# Altium schematic symbol library Device.SchLib: 594 symbols (part 1 of 3)
Pins are listed as number, name and electrical type; pins without a type are passive.

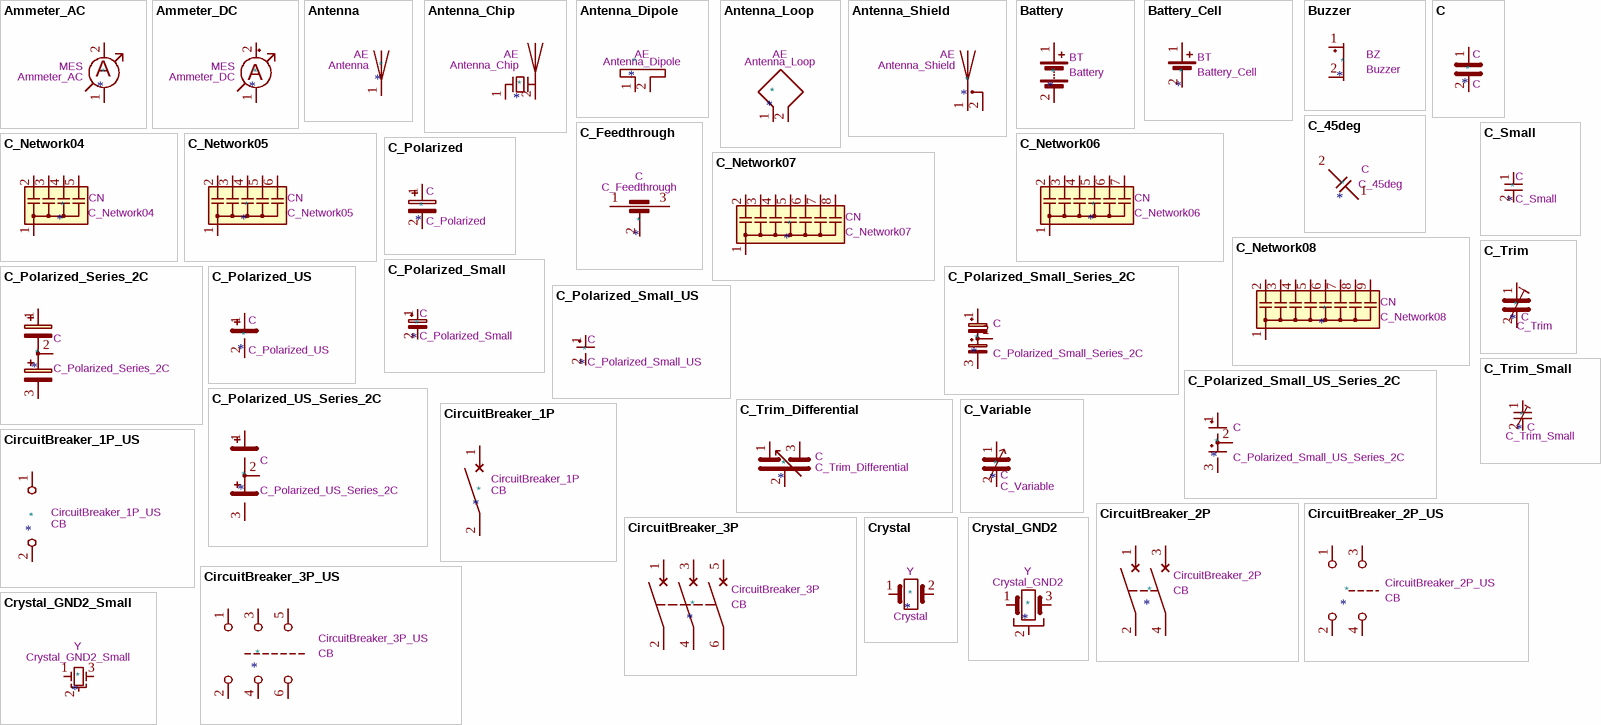
[diagram p0: symbols Ammeter_AC to Crystal_GND2_Small]

## Ammeter_AC
designator *  value Ammeter_AC  Reference: MES
ki_keywords: ammeter AC ampere meter; ki_description: AC ammeter; Datasheet: ~
pins: 1, 2
text: A

## Ammeter_DC
designator *  value Ammeter_DC  Reference: MES
ki_keywords: ammeter DC ampere meter; ki_description: DC ammeter; Datasheet: ~
pins: 1 -, 2 +
text: A

## Antenna
designator *  value Antenna  Reference: AE
Datasheet: ~; ki_keywords: antenna; ki_description: Antenna
pins: 1 A

## Antenna_Chip
designator *  value Antenna_Chip  Reference: AE
ki_keywords: antenna; ki_description: Ceramic chip antenna with pin for PCB trace; Datasheet: ~
pins: 1 FEED, 2 PCB_Trace

## Antenna_Dipole
designator *  value Antenna_Dipole  Reference: AE
ki_keywords: dipole antenna; Datasheet: ~; ki_description: Dipole antenna
pins: 1, 2

## Antenna_Loop
designator *  value Antenna_Loop  Reference: AE
ki_keywords: loop antenna; Datasheet: ~; ki_description: Loop antenna
pins: 1, 2

## Antenna_Shield
designator *  value Antenna_Shield  Reference: AE
ki_keywords: antenna; ki_description: Antenna with extra pin for shielding; Datasheet: ~
pins: 1 A, 2 Shield

## Battery
designator *  value Battery  Reference: BT
ki_keywords: batt voltage-source cell; ki_description: Multiple-cell battery; Datasheet: ~
pins: 1 +, 2 -

## Battery_Cell
designator *  value Battery_Cell  Reference: BT
ki_keywords: battery cell; ki_description: Single-cell battery; Datasheet: ~
pins: 1 +, 2 -

## Buzzer
designator *  value Buzzer  Reference: BZ
ki_keywords: quartz resonator ceramic; ki_description: Buzzer, polarized; ki_fp_filters: *Buzzer*; Datasheet: ~
pins: 1 +, 2 -

## C
designator *  value C
ki_keywords: cap capacitor; ki_description: Unpolarized capacitor; ki_fp_filters: C_*; Reference: C; Datasheet: ~
pins: 1, 2

## C_45deg
designator *  value C_45deg  Reference: C
ki_keywords: capacitor cap; ki_description: Unpolarized capacitor, rotated by 45°; ki_fp_filters: R_*; Datasheet: ~
pins: 1, 2

## C_Feedthrough
designator *  value C_Feedthrough  Reference: C
ki_keywords: EMI filter feedthrough capacitor; ki_description: Feedthrough capacitor; Datasheet: ~
pins: 1, 2, 3

## C_Network04
designator *  value C_Network04  Reference: CN
ki_keywords: C network star-topology; ki_description: 4 capacitor network, star topology, bussed capacitors, single bus pin, small symbol, SIP-5; ki_fp_filters: C*Array* SIP*; Datasheet: ~
pins: 1 common, 2 C1, 3 C2, 4 C3, 5 C4

## C_Network05
designator *  value C_Network05  Reference: CN
ki_keywords: C network star-topology; ki_description: 5 capacitor network, star topology, bussed capacitors, single bus pin, small symbol, SIP-6; ki_fp_filters: C*Array* SIP*; Datasheet: ~
pins: 1 common, 2 C1, 3 C2, 4 C3, 5 C4, 6 C5

## C_Network06
designator *  value C_Network06  Reference: CN
ki_keywords: C network star-topology; ki_description: 6 capacitor network, star topology, bussed capacitors, single bus pin, small symbol, SIP-7; ki_fp_filters: C*Array* SIP*; Datasheet: ~
pins: 1 common, 2 C1, 3 C2, 4 C3, 5 C4, 6 C5, 7 C6

## C_Network07
designator *  value C_Network07  Reference: CN
ki_keywords: C network star-topology; ki_description: 7 capacitor network, star topology, bussed capacitors, single bus pin, small symbol, SIP-8; ki_fp_filters: C*Array* SIP*; Datasheet: ~
pins: 1 common, 2 C1, 3 C2, 4 C3, 5 C4, 6 C5, 7 C6, 8 C7

## C_Network08
designator *  value C_Network08  Reference: CN
ki_keywords: C network star-topology; ki_description: 8 capacitor network, star topology, bussed capacitors, single bus pin, small symbol, SIP-9; ki_fp_filters: C*Array* SIP*; Datasheet: ~
pins: 1 common, 2 C1, 3 C2, 4 C3, 5 C4, 6 C5, 7 C6, 8 C7, 9 C8

## C_Polarized
designator *  value C_Polarized  Reference: C
ki_keywords: cap capacitor; ki_description: Polarized capacitor; ki_fp_filters: CP_*; Datasheet: ~
pins: 1, 2

## C_Polarized_Series_2C
designator *  value C_Polarized_Series_2C  Reference: C
ki_keywords: cap capacitor; ki_description: Set of two polarized capacitors in series; ki_fp_filters: CP*; Datasheet: ~
pins: 1, 2, 3

## C_Polarized_Small
designator *  value C_Polarized_Small  Reference: C
ki_keywords: cap capacitor; ki_description: Polarized capacitor, small symbol; ki_fp_filters: CP_*; Datasheet: ~
pins: 1, 2

## C_Polarized_Small_Series_2C
designator *  value C_Polarized_Small_Series_2C  Reference: C
ki_keywords: cap capacitor; ki_description: Set of two polarized capacitors in series, small symbol; ki_fp_filters: CP*; Datasheet: ~
pins: 1, 2, 3

## C_Polarized_Small_US
designator *  value C_Polarized_Small_US  Reference: C
ki_keywords: cap capacitor; ki_description: Polarized capacitor, small US symbol; ki_fp_filters: CP_*; Datasheet: ~
pins: 1, 2

## C_Polarized_Small_US_Series_2C
designator *  value C_Polarized_Small_US_Series_2C  Reference: C
ki_keywords: cap capacitor; ki_description: Polarized capacitor, small US symbol; ki_fp_filters: CP*; Datasheet: ~
pins: 1, 2, 3

## C_Polarized_US
designator *  value C_Polarized_US  Reference: C
ki_keywords: cap capacitor; ki_description: Polarized capacitor, US symbol; ki_fp_filters: CP_*; Datasheet: ~
pins: 1, 2

## C_Polarized_US_Series_2C
designator *  value C_Polarized_US_Series_2C  Reference: C
ki_keywords: cap capacitor; ki_description: Polarized capacitor, US symbol; ki_fp_filters: CP*; Datasheet: ~
pins: 1, 2, 3

## C_Small
designator *  value C_Small  Reference: C
ki_keywords: capacitor cap; ki_description: Unpolarized capacitor, small symbol; ki_fp_filters: C_*; Datasheet: ~
pins: 1, 2

## C_Trim
designator *  value C_Trim  Reference: C
ki_keywords: trimmer variable capacitor; ki_description: Trimmable capacitor; Datasheet: ~
pins: 1, 2

## C_Trim_Differential
designator *  value C_Trim_Differential  Reference: C
ki_keywords: trimmer capacitor; ki_description: Differential variable capacitor with two stators; Datasheet: ~
pins: 1, 2, 3

## C_Trim_Small
designator *  value C_Trim_Small  Reference: C
ki_keywords: trimmer variable capacitor; ki_description: Trimmable capacitor, small symbol; ki_fp_filters: C_*; Datasheet: ~
pins: 1, 2

## C_Variable
designator *  value C_Variable  Reference: C
ki_keywords: trimmer capacitor; ki_description: Variable capacitor; Datasheet: ~
pins: 1, 2

## CircuitBreaker_1P
designator *  value CircuitBreaker_1P  Reference: CB
ki_description: Single pole circuit breaker; Datasheet: ~; ki_keywords: CB
pins: 1, 2

## CircuitBreaker_1P_US
designator *  value CircuitBreaker_1P_US  Reference: CB
ki_description: Single pole circuit breaker, US symbol; Datasheet: ~; ki_keywords: CB
pins: 1, 2

## CircuitBreaker_2P
designator *  value CircuitBreaker_2P  Reference: CB
ki_keywords: CB 2P; ki_description: Double pole circuit breaker; Datasheet: ~
pins: 1, 2, 3, 4

## CircuitBreaker_2P_US
designator *  value CircuitBreaker_2P_US  Reference: CB
ki_keywords: CB 2P; ki_description: Double pole circuit breaker, US symbol; Datasheet: ~
pins: 1, 2, 3, 4

## CircuitBreaker_3P
designator *  value CircuitBreaker_3P  Reference: CB
ki_keywords: CB 3P; ki_description: Triple pole circuit breaker; Datasheet: ~
pins: 1, 2, 3, 4, 5, 6

## CircuitBreaker_3P_US
designator *  value CircuitBreaker_3P_US  Reference: CB
ki_keywords: CB 3P; ki_description: Triple pole circuit breaker, US symbol; Datasheet: ~
pins: 1, 2, 3, 4, 5, 6

## Crystal
designator *  value Crystal  Reference: Y
ki_keywords: quartz ceramic resonator oscillator; ki_description: Two pin crystal; ki_fp_filters: Crystal*; Datasheet: ~
pins: 1, 2

## Crystal_GND2
designator *  value Crystal_GND2  Reference: Y
ki_keywords: quartz ceramic resonator oscillator; ki_description: Three pin crystal, GND on pin 2; ki_fp_filters: Crystal*; Datasheet: ~
pins: 1, 2, 3

## Crystal_GND2_Small
designator *  value Crystal_GND2_Small  Reference: Y
ki_keywords: quartz ceramic resonator oscillator; ki_description: Three pin crystal, GND on pin 2, small symbol; ki_fp_filters: Crystal*; Datasheet: ~
pins: 1, 2, 3

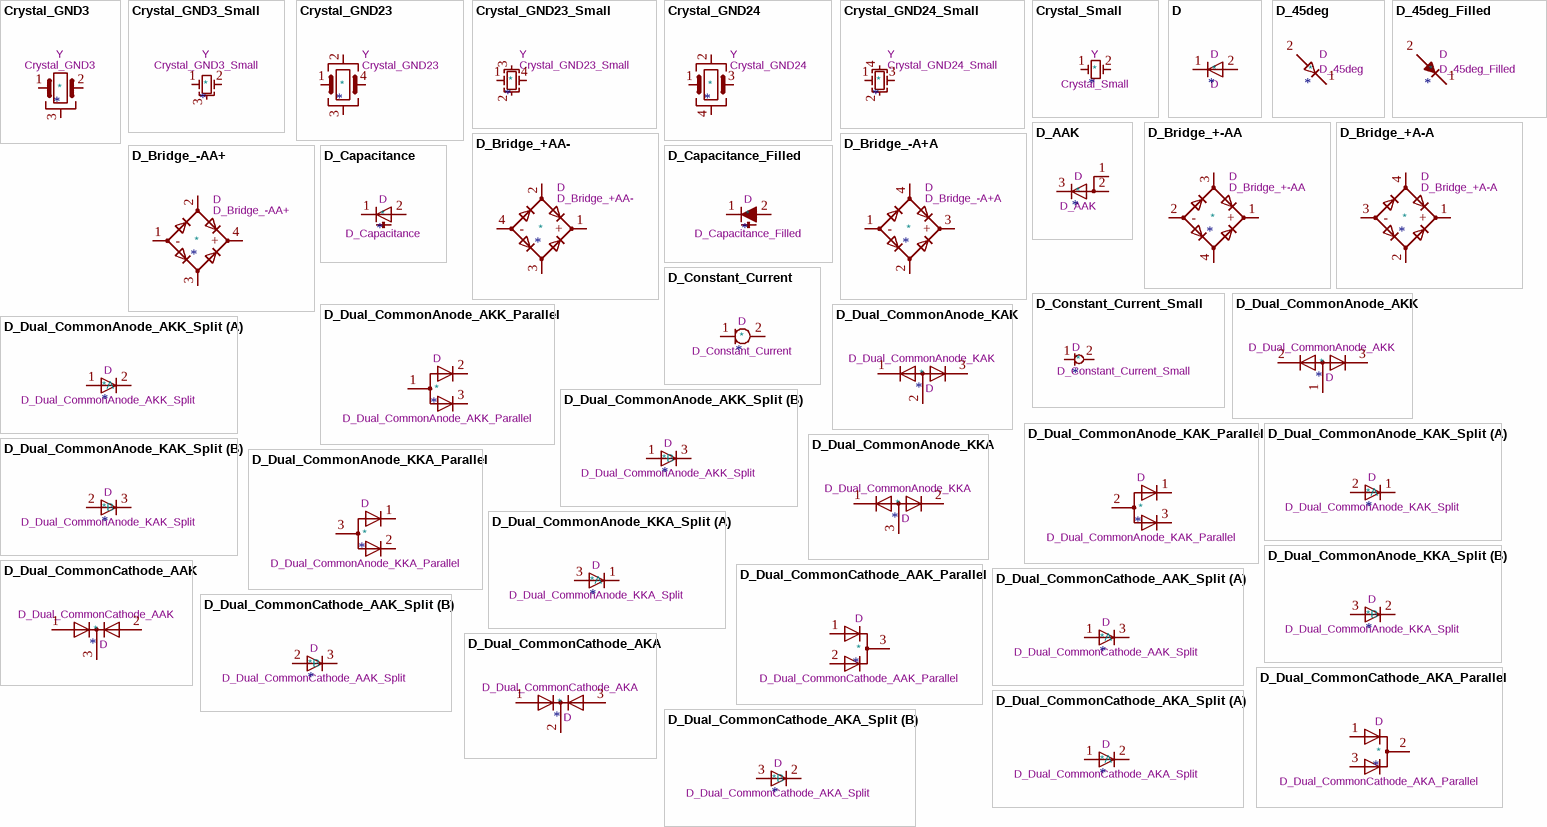
[diagram p1: symbols Crystal_GND3 to D_Dual_CommonCathode_AKA_Split]

## Crystal_GND3
designator *  value Crystal_GND3  Reference: Y
ki_keywords: quartz ceramic resonator oscillator; ki_description: Three pin crystal, GND on pin 3; ki_fp_filters: Crystal*; Datasheet: ~
pins: 1, 2, 3

## Crystal_GND3_Small
designator *  value Crystal_GND3_Small  Reference: Y
ki_keywords: quartz ceramic resonator oscillator; ki_description: Three pin crystal, GND on pin 3, small symbol; ki_fp_filters: Crystal*; Datasheet: ~
pins: 1, 2, 3

## Crystal_GND23
designator *  value Crystal_GND23  Reference: Y
ki_keywords: quartz ceramic resonator oscillator; ki_description: Four pin crystal, GND on pins 2 and 3; ki_fp_filters: Crystal*; Datasheet: ~
pins: 1, 2, 3, 4

## Crystal_GND23_Small
designator *  value Crystal_GND23_Small  Reference: Y
ki_keywords: quartz ceramic resonator oscillator; ki_description: Four pin crystal, GND on pins 2 and 3, small symbol; ki_fp_filters: Crystal*; Datasheet: ~
pins: 1, 2, 3, 4

## Crystal_GND24
designator *  value Crystal_GND24  Reference: Y
ki_keywords: quartz ceramic resonator oscillator; ki_description: Four pin crystal, GND on pins 2 and 4; ki_fp_filters: Crystal*; Datasheet: ~
pins: 1, 2, 3, 4

## Crystal_GND24_Small
designator *  value Crystal_GND24_Small  Reference: Y
ki_keywords: quartz ceramic resonator oscillator; ki_description: Four pin crystal, GND on pins 2 and 4, small symbol; ki_fp_filters: Crystal*; Datasheet: ~
pins: 1, 2, 3, 4

## Crystal_Small
designator *  value Crystal_Small  Reference: Y
ki_keywords: quartz ceramic resonator oscillator; ki_description: Two pin crystal, small symbol; ki_fp_filters: Crystal*; Datasheet: ~
pins: 1, 2

## D
designator *  value D
Sim.Pins: 1=K 2=A; ki_keywords: diode; ki_fp_filters: TO-???* *_Diode_* *SingleDiode* D_*; Reference: D; Datasheet: ~; Sim.Device: D; ki_description: Diode
pins: 1 K, 2 A

## D_45deg
designator *  value D_45deg  Reference: D
Sim.Pins: 1=K 2=A; ki_keywords: Diode; ki_description: Diode, rotated by 45°; ki_fp_filters: D*Bridge* D*Rectifier*; Datasheet: ~; Sim.Device: D
pins: 1 K, 2 A

## D_45deg_Filled
designator *  value D_45deg_Filled  Reference: D
Sim.Pins: 1=K 2=A; ki_keywords: Diode; ki_description: Diode, filled, rotated by 45°; ki_fp_filters: D*Bridge* D*Rectifier*; Datasheet: ~; Sim.Device: D
pins: 1 K, 2 A

## D_AAK
designator *  value D_AAK  Reference: D
ki_keywords: diode; ki_description: Diode, anode on pins 1 and 2; ki_fp_filters: TO-???* *_Diode_* *SingleDiode* D_*; Datasheet: ~
pins: 1 A, 2 A, 3 K

## D_Bridge_+-AA
designator *  value D_Bridge_+-AA  Reference: D
ki_keywords: rectifier ACDC; ki_description: Diode bridge, +ve/-ve/AC/AC; ki_fp_filters: D*Bridge* D*Rectifier*; Datasheet: ~
pins: 1 +, 2 -, 3, 4

## D_Bridge_+A-A
designator *  value D_Bridge_+A-A  Reference: D
ki_keywords: rectifier ACDC; ki_description: Diode bridge, +ve/AC/-ve/AC; ki_fp_filters: D*Bridge* D*Rectifier*; Datasheet: ~
pins: 1 +, 2, 3 -, 4

## D_Bridge_+AA-
designator *  value D_Bridge_+AA-  Reference: D
ki_keywords: rectifier ACDC; ki_description: Diode bridge, +ve/AC/AC/-ve; ki_fp_filters: D*Bridge* D*Rectifier*; Datasheet: ~
pins: 1 +, 2, 3, 4 -

## D_Bridge_-A+A
designator *  value D_Bridge_-A+A  Reference: D
ki_keywords: rectifier ACDC; ki_description: Diode bridge, -ve/AC/+ve/AC; ki_fp_filters: D*Bridge* D*Rectifier*; Datasheet: ~
pins: 1 -, 2, 3 +, 4

## D_Bridge_-AA+
designator *  value D_Bridge_-AA+  Reference: D
ki_keywords: rectifier ACDC; ki_description: Diode bridge, -ve/AC/AC/+ve; ki_fp_filters: D*Bridge* D*Rectifier*; Datasheet: ~
pins: 1 -, 2, 3, 4 +

## D_Capacitance
designator *  value D_Capacitance  Reference: D
ki_keywords: capacitance diode varicap varactor; ki_description: Variable capacitance diode; ki_fp_filters: TO-???* *_Diode_* *SingleDiode* D_*; Datasheet: ~
pins: 1 K, 2 A

## D_Capacitance_Filled
designator *  value D_Capacitance_Filled  Reference: D
ki_keywords: capacitance diode varicap varactor; ki_description: Variable capacitance diode, filled shape; ki_fp_filters: TO-???* *_Diode_* *SingleDiode* D_*; Datasheet: ~
pins: 1 K, 2 A

## D_Constant_Current
designator *  value D_Constant_Current  Reference: D
ki_keywords: diode constant-current current limit regulator; ki_description: Constant-current diode / current limiting diode / current regulator diode; ki_fp_filters: TO-???* D_*; Datasheet: ~
pins: 1 K, 2 A

## D_Constant_Current_Small
designator *  value D_Constant_Current_Small  Reference: D
ki_keywords: diode constant-current current limit regulator; ki_description: Constant-current diode / current limiting diode / current regulator diode, small symbol; ki_fp_filters: TO-???* D_*; Datasheet: ~
pins: 1 K, 2 A

## D_Dual_CommonAnode_AKK
designator *  value D_Dual_CommonAnode_AKK  Reference: D
ki_keywords: diode; ki_description: Dual diode, common anode on pin 1; Datasheet: ~
pins: 1 A, 2 K, 3 K

## D_Dual_CommonAnode_AKK_Parallel
designator *  value D_Dual_CommonAnode_AKK_Parallel  Reference: D
ki_keywords: diode; ki_description: Dual diode, common anode on pin 1; Datasheet: ~
pins: 1 A, 2 K, 3 K

## D_Dual_CommonAnode_AKK_Split
designator *  value D_Dual_CommonAnode_AKK_Split  Reference: D
ki_keywords: diode; ki_description: Dual diode, common anode on pin 1; Datasheet: ~
part A pins: 1 A, 2 K
part B pins: 1 A, 3 K

## D_Dual_CommonAnode_KAK
designator *  value D_Dual_CommonAnode_KAK  Reference: D
ki_keywords: diode; ki_description: Dual diode, common anode on pin 2; Datasheet: ~
pins: 1 K, 2 A, 3 K

## D_Dual_CommonAnode_KAK_Parallel
designator *  value D_Dual_CommonAnode_KAK_Parallel  Reference: D
ki_keywords: diode; ki_description: Dual diode, common anode on pin 1; Datasheet: ~
pins: 1 K, 2 A, 3 K

## D_Dual_CommonAnode_KAK_Split
designator *  value D_Dual_CommonAnode_KAK_Split  Reference: D
ki_keywords: diode; ki_description: Dual diode, common anode on pin 1; Datasheet: ~
part A pins: 1 K, 2 A
part B pins: 2 A, 3 K

## D_Dual_CommonAnode_KKA
designator *  value D_Dual_CommonAnode_KKA  Reference: D
ki_keywords: diode; ki_description: Dual diode, common anode on pin 3; Datasheet: ~
pins: 1 K, 2 K, 3 A

## D_Dual_CommonAnode_KKA_Parallel
designator *  value D_Dual_CommonAnode_KKA_Parallel  Reference: D
ki_keywords: diode; ki_description: Dual diode, common anode on pin 1; Datasheet: ~
pins: 1 K, 2 K, 3 A

## D_Dual_CommonAnode_KKA_Split
designator *  value D_Dual_CommonAnode_KKA_Split  Reference: D
ki_keywords: diode; ki_description: Dual diode, common anode on pin 1; Datasheet: ~
part A pins: 1 K, 3 A
part B pins: 2 K, 3 A

## D_Dual_CommonCathode_AAK
designator *  value D_Dual_CommonCathode_AAK  Reference: D
ki_keywords: diode; ki_description: Dual diode, common cathode on pin 3; Datasheet: ~
pins: 1 A, 2 A, 3 K

## D_Dual_CommonCathode_AAK_Parallel
designator *  value D_Dual_CommonCathode_AAK_Parallel  Reference: D
ki_keywords: diode; ki_description: Dual diode, common anode on pin 1; Datasheet: ~
pins: 1 K, 2 K, 3 A

## D_Dual_CommonCathode_AAK_Split
designator *  value D_Dual_CommonCathode_AAK_Split  Reference: D
ki_keywords: diode; ki_description: Dual diode, common anode on pin 1; Datasheet: ~
part A pins: 1 A, 3 K
part B pins: 2 K, 3 K

## D_Dual_CommonCathode_AKA
designator *  value D_Dual_CommonCathode_AKA  Reference: D
ki_keywords: diode; ki_description: Dual diode, common cathode on pin 2; Datasheet: ~
pins: 1 A, 2 K, 3 A

## D_Dual_CommonCathode_AKA_Parallel
designator *  value D_Dual_CommonCathode_AKA_Parallel  Reference: D
ki_keywords: diode; ki_description: Dual diode, common anode on pin 1; Datasheet: ~
pins: 1 K, 2 A, 3 K

## D_Dual_CommonCathode_AKA_Split
designator *  value D_Dual_CommonCathode_AKA_Split  Reference: D
ki_keywords: diode; ki_description: Dual diode, common anode on pin 1; Datasheet: ~
part A pins: 1 A, 2 K
part B pins: 2 K, 3 K

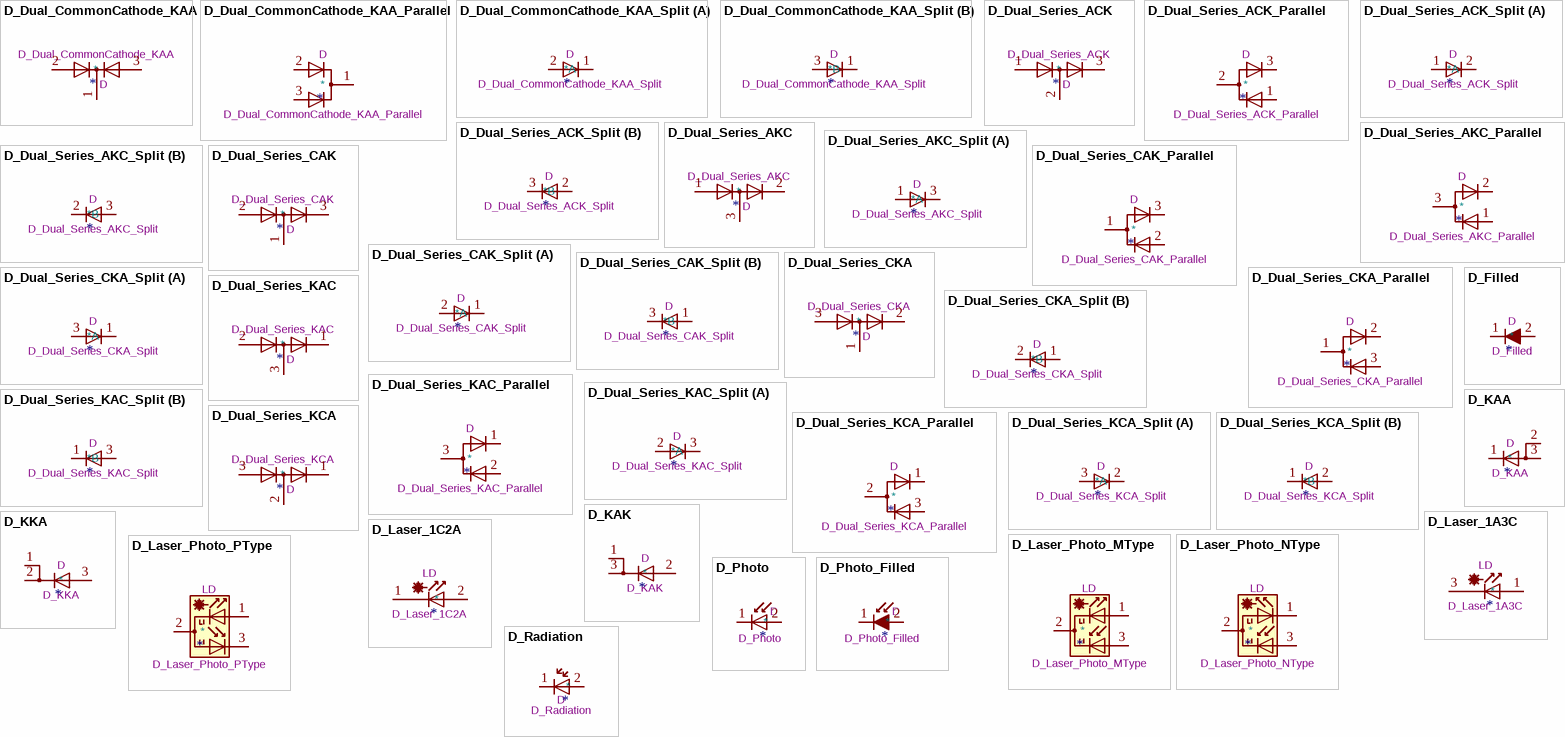
[diagram p2: symbols D_Dual_CommonCathode_KAA to D_Radiation]

## D_Dual_CommonCathode_KAA
designator *  value D_Dual_CommonCathode_KAA  Reference: D
ki_keywords: diode; ki_description: Dual diode, common cathode on pin 1; Datasheet: ~
pins: 1 K, 2 A, 3 A

## D_Dual_CommonCathode_KAA_Parallel
designator *  value D_Dual_CommonCathode_KAA_Parallel  Reference: D
ki_keywords: diode; ki_description: Dual diode, common anode on pin 1; Datasheet: ~
pins: 1 A, 2 K, 3 K

## D_Dual_CommonCathode_KAA_Split
designator *  value D_Dual_CommonCathode_KAA_Split  Reference: D
ki_keywords: diode; ki_description: Dual diode, common anode on pin 1; Datasheet: ~
part A pins: 1 K, 2 A
part B pins: 1 K, 3 K

## D_Dual_Series_ACK
designator *  value D_Dual_Series_ACK  Reference: D
ki_keywords: diode; ki_description: Dual diode, anode/center/cathode; Datasheet: ~
pins: 1 A, 2 common, 3 K

## D_Dual_Series_ACK_Parallel
designator *  value D_Dual_Series_ACK_Parallel  Reference: D
ki_keywords: diode; ki_description: Dual diode, anode/center/cathode; Datasheet: ~
pins: 1 K, 2 A, 3 K

## D_Dual_Series_ACK_Split
designator *  value D_Dual_Series_ACK_Split  Reference: D
ki_keywords: diode; ki_description: Dual diode, anode/center/cathode; Datasheet: ~
part A pins: 1 A, 2 K
part B pins: 2 K, 3 K

## D_Dual_Series_AKC
designator *  value D_Dual_Series_AKC  Reference: D
ki_keywords: diode; ki_description: Dual diode, anode/cathode/center; Datasheet: ~
pins: 1 A, 2 K, 3 common

## D_Dual_Series_AKC_Parallel
designator *  value D_Dual_Series_AKC_Parallel  Reference: D
ki_keywords: diode; ki_description: Dual diode, anode/cathode/center; Datasheet: ~
pins: 1 K, 2 K, 3 A

## D_Dual_Series_AKC_Split
designator *  value D_Dual_Series_AKC_Split  Reference: D
ki_keywords: diode; ki_description: Dual diode, anode/cathode/center; Datasheet: ~
part A pins: 1 A, 3 K
part B pins: 2 K, 3 K

## D_Dual_Series_CAK
designator *  value D_Dual_Series_CAK  Reference: D
ki_keywords: diode; ki_description: Dual diode, center/anode/cathode; Datasheet: ~
pins: 1 common, 2 A, 3 K

## D_Dual_Series_CAK_Parallel
designator *  value D_Dual_Series_CAK_Parallel  Reference: D
ki_keywords: diode; ki_description: Dual diode, center/anode/cathode; Datasheet: ~
pins: 1 A, 2 K, 3 K

## D_Dual_Series_CAK_Split
designator *  value D_Dual_Series_CAK_Split  Reference: D
ki_keywords: diode; ki_description: Dual diode, center/anode/cathode; Datasheet: ~
part A pins: 1 K, 2 A
part B pins: 1 K, 3 K

## D_Dual_Series_CKA
designator *  value D_Dual_Series_CKA  Reference: D
ki_keywords: diode; ki_description: Dual diode, center/cathode/anode; Datasheet: ~
pins: 1 common, 2 K, 3 A

## D_Dual_Series_CKA_Parallel
designator *  value D_Dual_Series_CKA_Parallel  Reference: D
ki_keywords: diode; ki_description: Dual diode, center/cathode/anode; Datasheet: ~
pins: 1 A, 2 K, 3 K

## D_Dual_Series_CKA_Split
designator *  value D_Dual_Series_CKA_Split  Reference: D
ki_keywords: diode; ki_description: Dual diode, center/cathode/anode; Datasheet: ~
part A pins: 1 K, 3 A
part B pins: 1 K, 2 K

## D_Dual_Series_KAC
designator *  value D_Dual_Series_KAC  Reference: D
ki_keywords: diode; ki_description: Dual diode, cathode/anode/center; Datasheet: ~
pins: 1 K, 2 A, 3 common

## D_Dual_Series_KAC_Parallel
designator *  value D_Dual_Series_KAC_Parallel  Reference: D
ki_keywords: diode; ki_description: Dual diode, cathode/anode/center; Datasheet: ~
pins: 1 K, 2 K, 3 A

## D_Dual_Series_KAC_Split
designator *  value D_Dual_Series_KAC_Split  Reference: D
ki_keywords: diode; ki_description: Dual diode, cathode/anode/center; Datasheet: ~
part A pins: 2 A, 3 K
part B pins: 1 K, 3 K

## D_Dual_Series_KCA
designator *  value D_Dual_Series_KCA  Reference: D
ki_keywords: diode; ki_description: Dual diode, cathode/center/anode; Datasheet: ~
pins: 1 K, 2 common, 3 A

## D_Dual_Series_KCA_Parallel
designator *  value D_Dual_Series_KCA_Parallel  Reference: D
ki_keywords: diode; ki_description: Dual diode, cathode/center/anode; Datasheet: ~
pins: 1 K, 2 A, 3 K

## D_Dual_Series_KCA_Split
designator *  value D_Dual_Series_KCA_Split  Reference: D
ki_keywords: diode; ki_description: Dual diode, cathode/center/anode; Datasheet: ~
part A pins: 2 K, 3 A
part B pins: 1 K, 2 K

## D_Filled
designator *  value D_Filled  Reference: D
Sim.Pins: 1=K 2=A; ki_keywords: diode; ki_description: Diode, filled shape; ki_fp_filters: TO-???* *_Diode_* *SingleDiode* D_*; Datasheet: ~; Sim.Device: D
pins: 1 K, 2 A

## D_KAA
designator *  value D_KAA  Reference: D
ki_keywords: diode; ki_description: Diode, anode on pins 2 and 3; ki_fp_filters: TO-???* *_Diode_* *SingleDiode* D_*; Datasheet: ~
pins: 1 K, 2 A, 3 A

## D_KAK
designator *  value D_KAK  Reference: D
ki_keywords: diode; ki_description: Diode, cathode on pins 1 and 3; ki_fp_filters: TO-???* *_Diode_* *SingleDiode* D_*; Datasheet: ~
pins: 1 K, 2 A, 3 K

## D_KKA
designator *  value D_KKA  Reference: D
ki_keywords: diode; ki_description: Diode, cathode on pins 1 and 2; ki_fp_filters: TO-???* *_Diode_* *SingleDiode* D_*; Datasheet: ~
pins: 1 K, 2 K, 3 A

## D_Laser_1A3C
designator *  value D_Laser_1A3C  Reference: LD
ki_keywords: opto laserdiode; ki_description: Laser diode, cathode on pin 3, anode on pin 1; ki_fp_filters: *LaserDiode*; Datasheet: ~
pins: 1 A, 3 K

## D_Laser_1C2A
designator *  value D_Laser_1C2A  Reference: LD
ki_keywords: opto laserdiode; ki_description: Laser diode, cathode on pin 1, anode on pin 2; ki_fp_filters: *LaserDiode*; Datasheet: ~
pins: 1 K, 2 A

## D_Laser_Photo_MType
designator *  value D_Laser_Photo_MType  Reference: LD
ki_keywords: opto laserdiode photodiode; ki_description: Laser diode with photodiode, common cathode on pin 2; ki_fp_filters: *LaserDiode*; Datasheet: http://www.egismos.disonhu.com/laser/diode-package.htm
pins: 1, 2, 3

## D_Laser_Photo_NType
designator *  value D_Laser_Photo_NType  Reference: LD
ki_keywords: opto laserdiode photodiode; ki_description: Laser diode with photodiode, center on pin 2, LD cathode on pin 1; ki_fp_filters: *LaserDiode*; Datasheet: http://www.egismos.disonhu.com/laser/diode-package.htm
pins: 1, 2, 3

## D_Laser_Photo_PType
designator *  value D_Laser_Photo_PType  Reference: LD
ki_keywords: opto laserdiode photodiode; ki_description: Laser diode with photodiode, center on pin 2, PD cathode on pin 3; ki_fp_filters: *LaserDiode*; Datasheet: http://www.egismos.disonhu.com/laser/diode-package.htm
pins: 1, 2, 3

## D_Photo
designator *  value D_Photo  Reference: D
ki_keywords: photodiode diode opto; ki_description: Photodiode; Datasheet: ~
pins: 1 K, 2 A

## D_Photo_Filled
designator *  value D_Photo_Filled  Reference: D
ki_keywords: photodiode diode opto; ki_description: Photodiode, filled shape; Datasheet: ~
pins: 1 K, 2 A

## D_Radiation
designator *  value D_Radiation  Reference: D
ki_keywords: radiation detector diode; ki_description: Semiconductor radiation detector; Datasheet: ~
pins: 1 K, 2 A

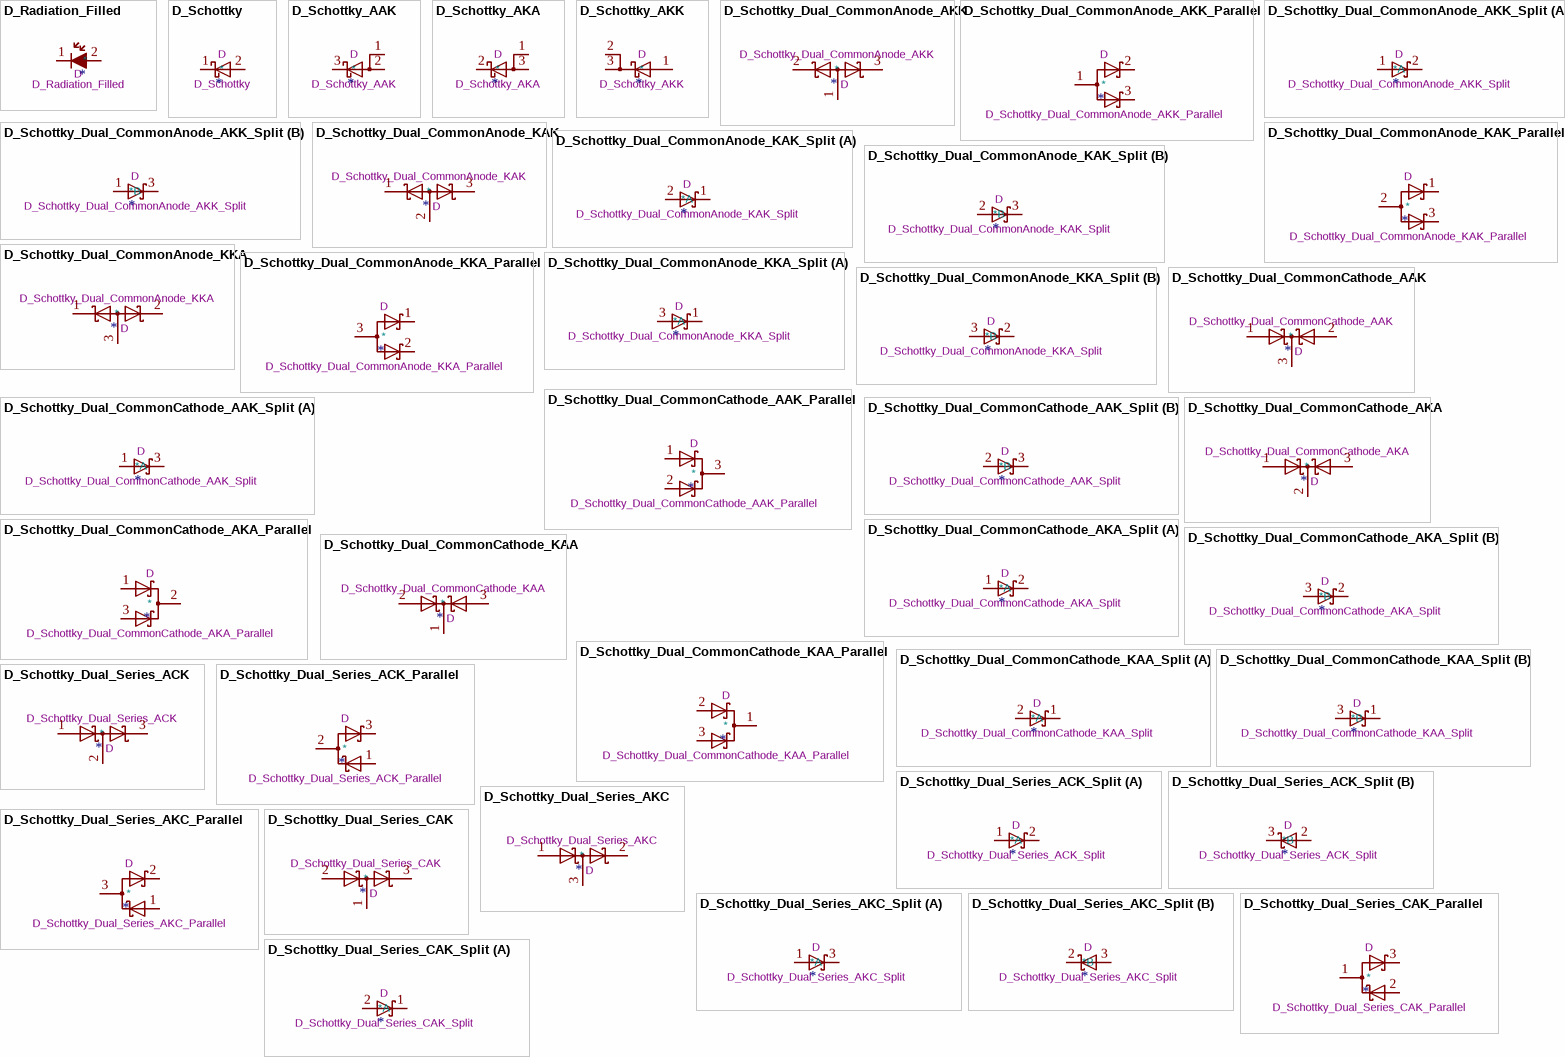
[diagram p3: symbols D_Radiation_Filled to D_Schottky_Dual_Series_CAK_Split]

## D_Radiation_Filled
designator *  value D_Radiation_Filled  Reference: D
ki_keywords: radiation detector diode; ki_description: Semiconductor radiation detector, filled shape; Datasheet: ~
pins: 1 K, 2 A

## D_Schottky
designator *  value D_Schottky  Reference: D
ki_keywords: diode Schottky; ki_description: Schottky diode; ki_fp_filters: TO-???* *_Diode_* *SingleDiode* D_*; Datasheet: ~
pins: 1 K, 2 A

## D_Schottky_AAK
designator *  value D_Schottky_AAK  Reference: D
ki_keywords: diode Schottky SCHDPAK; ki_description: Schottky diode, anode on pins 1 and 2; ki_fp_filters: TO-???* *_Diode_* *SingleDiode* D_*; Datasheet: ~
pins: 1 A, 2 A, 3 K

## D_Schottky_AKA
designator *  value D_Schottky_AKA  Reference: D
ki_keywords: diode Schottky SCHDPAK; ki_description: Schottky diode, anode on pins 1 and 3; ki_fp_filters: TO-???* *_Diode_* *SingleDiode* D_*; Datasheet: ~
pins: 1 A, 2 K, 3 A

## D_Schottky_AKK
designator *  value D_Schottky_AKK  Reference: D
ki_keywords: diode Schottky SCHDPAK; ki_description: Schottky diode, cathode on pins 2 and 3; ki_fp_filters: TO-???* *_Diode_* *SingleDiode* D_*; Datasheet: ~
pins: 1 A, 2 K, 3 K

## D_Schottky_Dual_CommonAnode_AKK
designator *  value D_Schottky_Dual_CommonAnode_AKK  Reference: D
ki_keywords: diode; ki_description: Dual Schottky diode, common anode on pin 1; Datasheet: ~
pins: 1 A, 2 K, 3 K

## D_Schottky_Dual_CommonAnode_AKK_Parallel
designator *  value D_Schottky_Dual_CommonAnode_AKK_Parallel  Reference: D
ki_keywords: diode; ki_description: Dual Schottky diode, common anode on pin 1; Datasheet: ~
pins: 1 A, 2 K, 3 K

## D_Schottky_Dual_CommonAnode_AKK_Split
designator *  value D_Schottky_Dual_CommonAnode_AKK_Split  Reference: D
ki_keywords: diode; ki_description: Dual Schottky diode, common anode on pin 1; Datasheet: ~
part A pins: 1 A, 2 K
part B pins: 1 A, 3 K

## D_Schottky_Dual_CommonAnode_KAK
designator *  value D_Schottky_Dual_CommonAnode_KAK  Reference: D
ki_keywords: diode; ki_description: Dual Schottky diode, common anode on pin 2; Datasheet: ~
pins: 1 K, 2 A, 3 K

## D_Schottky_Dual_CommonAnode_KAK_Parallel
designator *  value D_Schottky_Dual_CommonAnode_KAK_Parallel  Reference: D
ki_keywords: diode; ki_description: Dual Schottky diode, common anode on pin 1; Datasheet: ~
pins: 1 K, 2 A, 3 K

## D_Schottky_Dual_CommonAnode_KAK_Split
designator *  value D_Schottky_Dual_CommonAnode_KAK_Split  Reference: D
ki_keywords: diode; ki_description: Dual Schottky diode, common anode on pin 1; Datasheet: ~
part A pins: 1 K, 2 A
part B pins: 2 A, 3 K

## D_Schottky_Dual_CommonAnode_KKA
designator *  value D_Schottky_Dual_CommonAnode_KKA  Reference: D
ki_keywords: diode; ki_description: Dual Schottky diode, common anode on pin 3; Datasheet: ~
pins: 1 K, 2 K, 3 A

## D_Schottky_Dual_CommonAnode_KKA_Parallel
designator *  value D_Schottky_Dual_CommonAnode_KKA_Parallel  Reference: D
ki_keywords: diode; ki_description: Dual Schottky diode, common anode on pin 1; Datasheet: ~
pins: 1 K, 2 K, 3 A

## D_Schottky_Dual_CommonAnode_KKA_Split
designator *  value D_Schottky_Dual_CommonAnode_KKA_Split  Reference: D
ki_keywords: diode; ki_description: Dual Schottky diode, common anode on pin 1; Datasheet: ~
part A pins: 1 K, 3 A
part B pins: 2 K, 3 A

## D_Schottky_Dual_CommonCathode_AAK
designator *  value D_Schottky_Dual_CommonCathode_AAK  Reference: D
ki_keywords: diode; ki_description: Dual Schottky diode, common cathode on pin 3; Datasheet: ~
pins: 1 A, 2 A, 3 K

## D_Schottky_Dual_CommonCathode_AAK_Parallel
designator *  value D_Schottky_Dual_CommonCathode_AAK_Parallel  Reference: D
ki_keywords: diode; ki_description: Dual Schottky diode, common anode on pin 1; Datasheet: ~
pins: 1 K, 2 K, 3 A

## D_Schottky_Dual_CommonCathode_AAK_Split
designator *  value D_Schottky_Dual_CommonCathode_AAK_Split  Reference: D
ki_keywords: diode; ki_description: Dual Schottky diode, common anode on pin 1; Datasheet: ~
part A pins: 1 A, 3 K
part B pins: 2 K, 3 K

## D_Schottky_Dual_CommonCathode_AKA
designator *  value D_Schottky_Dual_CommonCathode_AKA  Reference: D
ki_keywords: diode; ki_description: Dual Schottky diode, common cathode on pin 2; Datasheet: ~
pins: 1 A, 2 K, 3 A

## D_Schottky_Dual_CommonCathode_AKA_Parallel
designator *  value D_Schottky_Dual_CommonCathode_AKA_Parallel  Reference: D
ki_keywords: diode; ki_description: Dual Schottky diode, common anode on pin 1; Datasheet: ~
pins: 1 K, 2 A, 3 K

## D_Schottky_Dual_CommonCathode_AKA_Split
designator *  value D_Schottky_Dual_CommonCathode_AKA_Split  Reference: D
ki_keywords: diode; ki_description: Dual Schottky diode, common anode on pin 1; Datasheet: ~
part A pins: 1 A, 2 K
part B pins: 2 K, 3 K

## D_Schottky_Dual_CommonCathode_KAA
designator *  value D_Schottky_Dual_CommonCathode_KAA  Reference: D
ki_keywords: diode; ki_description: Dual Schottky diode, common cathode on pin 1; Datasheet: ~
pins: 1 K, 2 A, 3 A

## D_Schottky_Dual_CommonCathode_KAA_Parallel
designator *  value D_Schottky_Dual_CommonCathode_KAA_Parallel  Reference: D
ki_keywords: diode; ki_description: Dual Schottky diode, common anode on pin 1; Datasheet: ~
pins: 1 A, 2 K, 3 K

## D_Schottky_Dual_CommonCathode_KAA_Split
designator *  value D_Schottky_Dual_CommonCathode_KAA_Split  Reference: D
ki_keywords: diode; ki_description: Dual Schottky diode, common anode on pin 1; Datasheet: ~
part A pins: 1 K, 2 A
part B pins: 1 K, 3 K

## D_Schottky_Dual_Series_ACK
designator *  value D_Schottky_Dual_Series_ACK  Reference: D
ki_keywords: diode; ki_description: Dual Schottky diode, anode/center/cathode; Datasheet: ~
pins: 1 A, 2 common, 3 K

## D_Schottky_Dual_Series_ACK_Parallel
designator *  value D_Schottky_Dual_Series_ACK_Parallel  Reference: D
ki_keywords: diode; ki_description: Dual Schottky diode, anode/center/cathode; Datasheet: ~
pins: 1 K, 2 A, 3 K

## D_Schottky_Dual_Series_ACK_Split
designator *  value D_Schottky_Dual_Series_ACK_Split  Reference: D
ki_keywords: diode; ki_description: Dual Schottky diode, anode/center/cathode; Datasheet: ~
part A pins: 1 A, 2 K
part B pins: 2 K, 3 K

## D_Schottky_Dual_Series_AKC
designator *  value D_Schottky_Dual_Series_AKC  Reference: D
ki_keywords: diode; ki_description: Dual Schottky diode, anode/cathode/center; Datasheet: ~
pins: 1 A, 2 K, 3 common

## D_Schottky_Dual_Series_AKC_Parallel
designator *  value D_Schottky_Dual_Series_AKC_Parallel  Reference: D
ki_keywords: diode; ki_description: Dual Schottky diode, anode/cathode/center; Datasheet: ~
pins: 1 K, 2 K, 3 A

## D_Schottky_Dual_Series_AKC_Split
designator *  value D_Schottky_Dual_Series_AKC_Split  Reference: D
ki_keywords: diode; ki_description: Dual Schottky diode, anode/cathode/center; Datasheet: ~
part A pins: 1 A, 3 K
part B pins: 2 K, 3 K

## D_Schottky_Dual_Series_CAK
designator *  value D_Schottky_Dual_Series_CAK  Reference: D
ki_keywords: diode; ki_description: Dual Schottky diode, center/anode/cathode; Datasheet: ~
pins: 1 common, 2 A, 3 K

## D_Schottky_Dual_Series_CAK_Parallel
designator *  value D_Schottky_Dual_Series_CAK_Parallel  Reference: D
ki_keywords: diode; ki_description: Dual Schottky diode, center/anode/cathode; Datasheet: ~
pins: 1 A, 2 K, 3 K

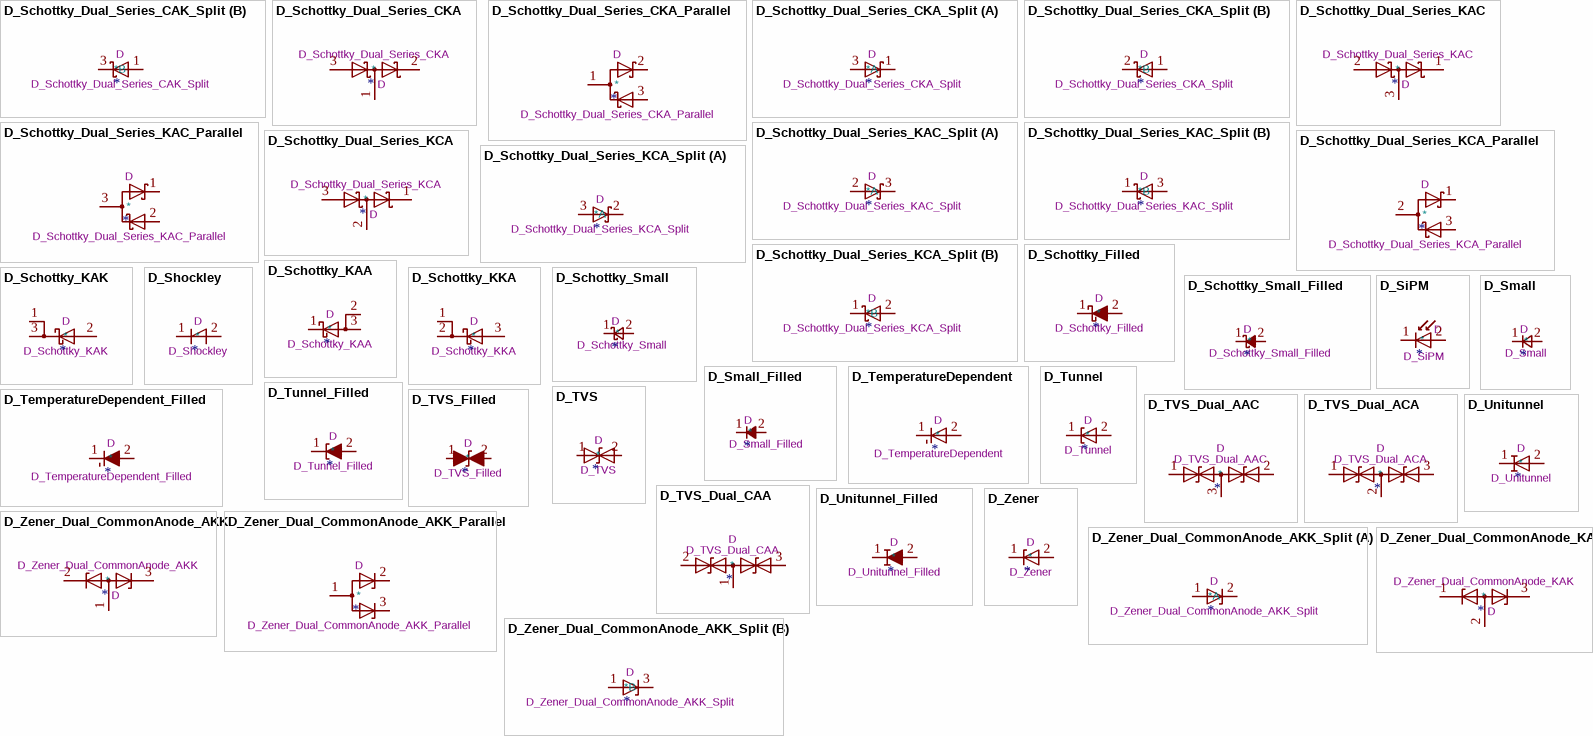
[diagram p4: symbols D_Schottky_Dual_Series_CAK_Split to D_Zener_Dual_CommonAnode_KAK]

## D_Schottky_Dual_Series_CAK_Split
designator *  value D_Schottky_Dual_Series_CAK_Split  Reference: D
ki_keywords: diode; ki_description: Dual Schottky diode, center/anode/cathode; Datasheet: ~
part A pins: 1 K, 2 A
part B pins: 1 K, 3 K

## D_Schottky_Dual_Series_CKA
designator *  value D_Schottky_Dual_Series_CKA  Reference: D
ki_keywords: diode; ki_description: Dual Schottky diode, center/cathode/anode; Datasheet: ~
pins: 1 common, 2 K, 3 A

## D_Schottky_Dual_Series_CKA_Parallel
designator *  value D_Schottky_Dual_Series_CKA_Parallel  Reference: D
ki_keywords: diode; ki_description: Dual Schottky diode, center/cathode/anode; Datasheet: ~
pins: 1 A, 2 K, 3 K

## D_Schottky_Dual_Series_CKA_Split
designator *  value D_Schottky_Dual_Series_CKA_Split  Reference: D
ki_keywords: diode; ki_description: Dual Schottky diode, center/cathode/anode; Datasheet: ~
part A pins: 1 K, 3 A
part B pins: 1 K, 2 K

## D_Schottky_Dual_Series_KAC
designator *  value D_Schottky_Dual_Series_KAC  Reference: D
ki_keywords: diode; ki_description: Dual Schottky diode, cathode/anode/center; Datasheet: ~
pins: 1 K, 2 A, 3 common

## D_Schottky_Dual_Series_KAC_Parallel
designator *  value D_Schottky_Dual_Series_KAC_Parallel  Reference: D
ki_keywords: diode; ki_description: Dual Schottky diode, cathode/anode/center; Datasheet: ~
pins: 1 K, 2 K, 3 A

## D_Schottky_Dual_Series_KAC_Split
designator *  value D_Schottky_Dual_Series_KAC_Split  Reference: D
ki_keywords: diode; ki_description: Dual Schottky diode, cathode/anode/center; Datasheet: ~
part A pins: 2 A, 3 K
part B pins: 1 K, 3 K

## D_Schottky_Dual_Series_KCA
designator *  value D_Schottky_Dual_Series_KCA  Reference: D
ki_keywords: diode; ki_description: Dual Schottky diode, cathode/center/anode; Datasheet: ~
pins: 1 K, 2 common, 3 A

## D_Schottky_Dual_Series_KCA_Parallel
designator *  value D_Schottky_Dual_Series_KCA_Parallel  Reference: D
ki_keywords: diode; ki_description: Dual Schottky diode, cathode/center/anode; Datasheet: ~
pins: 1 K, 2 A, 3 K

## D_Schottky_Dual_Series_KCA_Split
designator *  value D_Schottky_Dual_Series_KCA_Split  Reference: D
ki_keywords: diode; ki_description: Dual Schottky diode, cathode/center/anode; Datasheet: ~
part A pins: 2 K, 3 A
part B pins: 1 K, 2 K

## D_Schottky_Filled
designator *  value D_Schottky_Filled  Reference: D
ki_keywords: diode Schottky; ki_description: Schottky diode, filled shape; ki_fp_filters: TO-???* *_Diode_* *SingleDiode* D_*; Datasheet: ~
pins: 1 K, 2 A

## D_Schottky_KAA
designator *  value D_Schottky_KAA  Reference: D
ki_keywords: diode Schottky SCHDPAK; ki_description: Schottky diode, anode on pins 2 and 3; ki_fp_filters: TO-???* *_Diode_* *SingleDiode* D_*; Datasheet: ~
pins: 1 K, 2 A, 3 A

## D_Schottky_KAK
designator *  value D_Schottky_KAK  Reference: D
ki_keywords: diode Schottky SCHDPAK; ki_description: Schottky diode, cathode on pins 1 and 3; ki_fp_filters: TO-???* *_Diode_* *SingleDiode* D_*; Datasheet: ~
pins: 1 K, 2 A, 3 K

## D_Schottky_KKA
designator *  value D_Schottky_KKA  Reference: D
ki_keywords: diode Schottky SCHDPAK; ki_description: Schottky diode, cathode on pins 1 and 2; ki_fp_filters: TO-???* *_Diode_* *SingleDiode* D_*; Datasheet: ~
pins: 1 K, 2 K, 3 A

## D_Schottky_Small
designator *  value D_Schottky_Small  Reference: D
ki_keywords: diode Schottky; ki_description: Schottky diode, small symbol; ki_fp_filters: TO-???* *_Diode_* *SingleDiode* D_*; Datasheet: ~
pins: 1 K, 2 A

## D_Schottky_Small_Filled
designator *  value D_Schottky_Small_Filled  Reference: D
ki_keywords: diode Schottky; ki_description: Schottky diode, small symbol, filled shape; ki_fp_filters: TO-???* *_Diode_* *SingleDiode* D_*; Datasheet: ~
pins: 1 K, 2 A

## D_Shockley
designator *  value D_Shockley  Reference: D
ki_keywords: Shockley diode PNPN; ki_description: Shockley (PNPN) diode; ki_fp_filters: TO-???* *_Diode_* *SingleDiode* D_*; Datasheet: ~
pins: 1 K, 2 A

## D_SiPM
designator *  value D_SiPM  Reference: D
ki_keywords: SiPM MPPC SPAD photon counting; ki_description: Silicon photomultiplier; ki_fp_filters: MPPC*; Datasheet: ~
pins: 1 K, 2 A

## D_Small
designator *  value D_Small  Reference: D
Sim.Pins: 1=K 2=A; ki_keywords: diode; ki_description: Diode, small symbol; ki_fp_filters: TO-???* *_Diode_* *SingleDiode* D_*; Datasheet: ~; Sim.Device: D
pins: 1 K, 2 A

## D_Small_Filled
designator *  value D_Small_Filled  Reference: D
Sim.Pins: 1=K 2=A; ki_keywords: diode; ki_description: Diode, small symbol, filled shape; ki_fp_filters: TO-???* *_Diode_* *SingleDiode* D_*; Datasheet: ~; Sim.Device: D
pins: 1 K, 2 A

## D_TemperatureDependent
designator *  value D_TemperatureDependent  Reference: D
ki_keywords: temperature sensor diode; ki_description: Temperature dependent diode; ki_fp_filters: TO-???* *_Diode_* *SingleDiode* D_*; Datasheet: ~
pins: 1 K, 2 A

## D_TemperatureDependent_Filled
designator *  value D_TemperatureDependent_Filled  Reference: D
ki_keywords: temperature sensor diode; ki_description: Temperature dependent diode, filled shape; ki_fp_filters: TO-???* *_Diode_* *SingleDiode* D_*; Datasheet: ~
pins: 1 K, 2 A

## D_Tunnel
designator *  value D_Tunnel  Reference: D
ki_keywords: tunnel diode; ki_description: Tunnel diode (Esaki diode); ki_fp_filters: TO-???* *_Diode_* *SingleDiode* D_*; Datasheet: ~
pins: 1 K, 2 A

## D_Tunnel_Filled
designator *  value D_Tunnel_Filled  Reference: D
ki_keywords: tunnel diode; ki_description: Tunnel diode (Esaki diode), filled shape; ki_fp_filters: TO-???* *_Diode_* *SingleDiode* D_*; Datasheet: ~
pins: 1 K, 2 A

## D_TVS
designator *  value D_TVS  Reference: D
ki_keywords: diode TVS thyrector; ki_description: Bidirectional transient-voltage-suppression diode; ki_fp_filters: TO-???* *_Diode_* *SingleDiode* D_*; Datasheet: ~
pins: 1 A1, 2 A2

## D_TVS_Dual_AAC
designator *  value D_TVS_Dual_AAC  Reference: D
ki_keywords: diode TVS thyrector; ki_description: Bidirectional dual transient-voltage-suppression diode, center on pin 3; Datasheet: ~
pins: 1 A1, 2 A2, 3 common

## D_TVS_Dual_ACA
designator *  value D_TVS_Dual_ACA  Reference: D
ki_keywords: diode TVS thyrector; ki_description: Bidirectional dual transient-voltage-suppression diode, center on pin 2; Datasheet: ~
pins: 1 A1, 2 common, 3 A2

## D_TVS_Dual_CAA
designator *  value D_TVS_Dual_CAA  Reference: D
ki_keywords: diode TVS thyrector; ki_description: Bidirectional dual transient-voltage-suppression diode, center on pin 1; Datasheet: ~
pins: 1 common, 2 A1, 3 A2

## D_TVS_Filled
designator *  value D_TVS_Filled  Reference: D
ki_keywords: diode TVS thyrector; ki_description: Bidirectional transient-voltage-suppression diode, filled shape; ki_fp_filters: TO-???* *_Diode_* *SingleDiode* D_*; Datasheet: ~
pins: 1 A1, 2 A2

## D_Unitunnel
designator *  value D_Unitunnel  Reference: D
ki_keywords: unitunnel diode; ki_fp_filters: TO-???* *_Diode_* *SingleDiode* D_*; Datasheet: ~; ki_description: Unitunnel diode
pins: 1 K, 2 A

## D_Unitunnel_Filled
designator *  value D_Unitunnel_Filled  Reference: D
ki_keywords: unitunnel diode; ki_description: Unitunnel diode, filled shape; ki_fp_filters: TO-???* *_Diode_* *SingleDiode* D_*; Datasheet: ~
pins: 1 K, 2 A

## D_Zener
designator *  value D_Zener  Reference: D
ki_keywords: diode; ki_description: Zener diode; ki_fp_filters: TO-???* *_Diode_* *SingleDiode* D_*; Datasheet: ~
pins: 1 K, 2 A

## D_Zener_Dual_CommonAnode_AKK
designator *  value D_Zener_Dual_CommonAnode_AKK  Reference: D
ki_keywords: diode zener dual; ki_description: Dual Zener diode, common anode on pin 1; ki_fp_filters: SOT* SC*; Datasheet: ~
pins: 1 A, 2 K, 3 K

## D_Zener_Dual_CommonAnode_AKK_Parallel
designator *  value D_Zener_Dual_CommonAnode_AKK_Parallel  Reference: D
ki_keywords: diode; ki_description: Dual Zener diode, common anode on pin 1; Datasheet: ~
pins: 1 A, 2 K, 3 K

## D_Zener_Dual_CommonAnode_AKK_Split
designator *  value D_Zener_Dual_CommonAnode_AKK_Split  Reference: D
ki_keywords: diode; ki_description: Dual Zener diode, common anode on pin 1; Datasheet: ~
part A pins: 1 A, 2 K
part B pins: 1 A, 3 K

## D_Zener_Dual_CommonAnode_KAK
designator *  value D_Zener_Dual_CommonAnode_KAK  Reference: D
ki_keywords: diode zener dual; ki_description: Dual Zener diode, common anode on pin 2; ki_fp_filters: SOT* SC*; Datasheet: ~
pins: 1 K, 2 A, 3 K

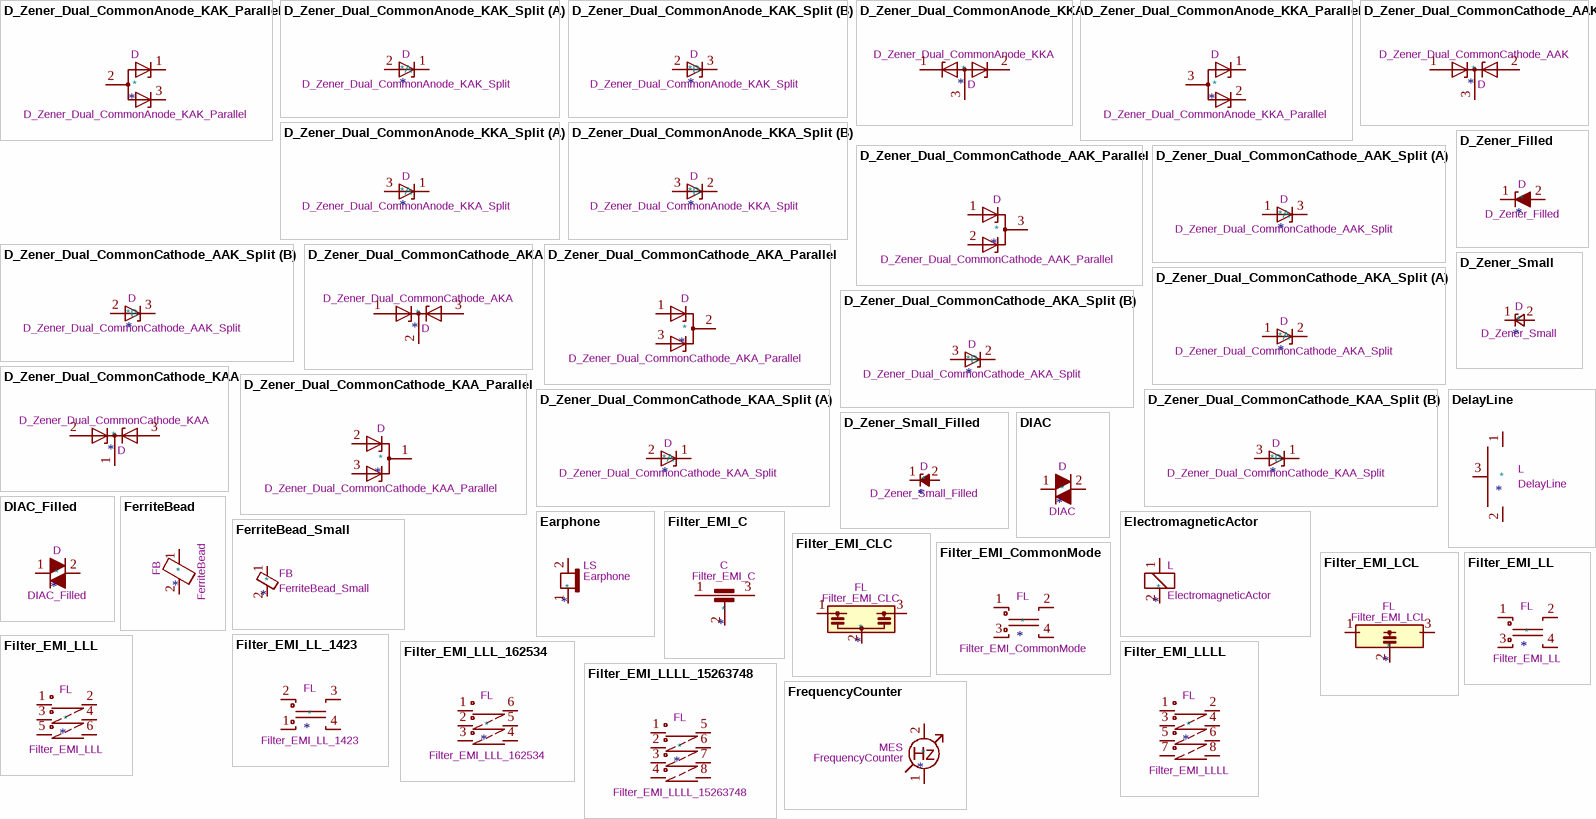
[diagram p5: symbols D_Zener_Dual_CommonAnode_KAK_Parallel to FrequencyCounter]

## D_Zener_Dual_CommonAnode_KAK_Parallel
designator *  value D_Zener_Dual_CommonAnode_KAK_Parallel  Reference: D
ki_keywords: diode; ki_description: Dual Zener diode, common anode on pin 1; Datasheet: ~
pins: 1 K, 2 A, 3 K

## D_Zener_Dual_CommonAnode_KAK_Split
designator *  value D_Zener_Dual_CommonAnode_KAK_Split  Reference: D
ki_keywords: diode; ki_description: Dual Zener diode, common anode on pin 1; Datasheet: ~
part A pins: 1 K, 2 A
part B pins: 2 A, 3 K

## D_Zener_Dual_CommonAnode_KKA
designator *  value D_Zener_Dual_CommonAnode_KKA  Reference: D
ki_keywords: diode zener dual; ki_description: Dual Zener diode, common anode on pin 3; ki_fp_filters: SOT* SC*; Datasheet: ~
pins: 1 K, 2 K, 3 A

## D_Zener_Dual_CommonAnode_KKA_Parallel
designator *  value D_Zener_Dual_CommonAnode_KKA_Parallel  Reference: D
ki_keywords: diode; ki_description: Dual Zener diode, common anode on pin 1; Datasheet: ~
pins: 1 K, 2 K, 3 A

## D_Zener_Dual_CommonAnode_KKA_Split
designator *  value D_Zener_Dual_CommonAnode_KKA_Split  Reference: D
ki_keywords: diode; ki_description: Dual Zener diode, common anode on pin 1; Datasheet: ~
part A pins: 1 K, 3 A
part B pins: 2 K, 3 A

## D_Zener_Dual_CommonCathode_AAK
designator *  value D_Zener_Dual_CommonCathode_AAK  Reference: D
ki_keywords: diode zener dual; ki_description: Dual Zener diode, common cathode on pin 3; ki_fp_filters: SOT* SC*; Datasheet: ~
pins: 1 A, 2 A, 3 K

## D_Zener_Dual_CommonCathode_AAK_Parallel
designator *  value D_Zener_Dual_CommonCathode_AAK_Parallel  Reference: D
ki_keywords: diode; ki_description: Dual Zener diode, common anode on pin 1; Datasheet: ~
pins: 1 K, 2 K, 3 A

## D_Zener_Dual_CommonCathode_AAK_Split
designator *  value D_Zener_Dual_CommonCathode_AAK_Split  Reference: D
ki_keywords: diode; ki_description: Dual Zener diode, common anode on pin 1; Datasheet: ~
part A pins: 1 A, 3 K
part B pins: 2 K, 3 K

## D_Zener_Dual_CommonCathode_AKA
designator *  value D_Zener_Dual_CommonCathode_AKA  Reference: D
ki_keywords: diode zener dual; ki_description: Dual Zener diode, common cathode on pin 2; ki_fp_filters: SOT* SC*; Datasheet: ~
pins: 1 A, 2 K, 3 A

## D_Zener_Dual_CommonCathode_AKA_Parallel
designator *  value D_Zener_Dual_CommonCathode_AKA_Parallel  Reference: D
ki_keywords: diode; ki_description: Dual Zener diode, common anode on pin 1; Datasheet: ~
pins: 1 K, 2 A, 3 K

## D_Zener_Dual_CommonCathode_AKA_Split
designator *  value D_Zener_Dual_CommonCathode_AKA_Split  Reference: D
ki_keywords: diode; ki_description: Dual Zener diode, common anode on pin 1; Datasheet: ~
part A pins: 1 A, 2 K
part B pins: 2 K, 3 K

## D_Zener_Dual_CommonCathode_KAA
designator *  value D_Zener_Dual_CommonCathode_KAA  Reference: D
ki_keywords: diode zener dual; ki_description: Dual Zener diode, common cathode on pin 1; ki_fp_filters: SOT* SC*; Datasheet: ~
pins: 1 K, 2 A, 3 A

## D_Zener_Dual_CommonCathode_KAA_Parallel
designator *  value D_Zener_Dual_CommonCathode_KAA_Parallel  Reference: D
ki_keywords: diode; ki_description: Dual Zener diode, common anode on pin 1; Datasheet: ~
pins: 1 A, 2 K, 3 K

## D_Zener_Dual_CommonCathode_KAA_Split
designator *  value D_Zener_Dual_CommonCathode_KAA_Split  Reference: D
ki_keywords: diode; ki_description: Dual Zener diode, common anode on pin 1; Datasheet: ~
part A pins: 1 K, 2 A
part B pins: 1 K, 3 K

## D_Zener_Filled
designator *  value D_Zener_Filled  Reference: D
ki_keywords: diode; ki_description: Zener diode, filled shape; ki_fp_filters: TO-???* *_Diode_* *SingleDiode* D_*; Datasheet: ~
pins: 1 K, 2 A

## D_Zener_Small
designator *  value D_Zener_Small  Reference: D
ki_keywords: diode; ki_description: Zener diode, small symbol; ki_fp_filters: TO-???* *_Diode_* *SingleDiode* D_*; Datasheet: ~
pins: 1 K, 2 A

## D_Zener_Small_Filled
designator *  value D_Zener_Small_Filled  Reference: D
ki_keywords: diode; ki_description: Zener diode, small symbol, filled shape; ki_fp_filters: TO-???* *_Diode_* *SingleDiode* D_*; Datasheet: ~
pins: 1 K, 2 A

## DelayLine
designator *  value DelayLine  Reference: L
ki_keywords: delay propagation retard impedance; ki_description: Delay line; Datasheet: ~
pins: 1, 2, 3 COMMUN

## DIAC
designator *  value DIAC  Reference: D
ki_keywords: AC diode DIAC; ki_description: Diode for alternating current; ki_fp_filters: TO-???* *_Diode_* *SingleDiode* D_*; Datasheet: ~
pins: 1 K, 2 A

## DIAC_Filled
designator *  value DIAC_Filled  Reference: D
ki_keywords: AC diode DIAC; ki_description: Diode for alternating current, filled shape; ki_fp_filters: TO-???* *_Diode_* *SingleDiode* D_*; Datasheet: ~
pins: 1 K, 2 A

## Earphone
designator *  value Earphone  Reference: LS
ki_keywords: earphone speaker headphone; ki_description: Earphone, polarized; Datasheet: ~
pins: 1 -, 2 +

## ElectromagneticActor
designator *  value ElectromagneticActor  Reference: L
ki_keywords: electromagnet coil inductor; ki_description: Electromagnetic actor; ki_fp_filters: Inductor_* L_*; Datasheet: ~
pins: 1 -, 2 +

## FerriteBead
designator *  value FerriteBead  Reference: FB
ki_keywords: L ferrite bead inductor filter; ki_description: Ferrite bead; ki_fp_filters: Inductor_* L_* *Ferrite*; Datasheet: ~
pins: 1, 2

## FerriteBead_Small
designator *  value FerriteBead_Small  Reference: FB
ki_keywords: L ferrite bead inductor filter; ki_description: Ferrite bead, small symbol; ki_fp_filters: Inductor_* L_* *Ferrite*; Datasheet: ~
pins: 1, 2

## Filter_EMI_C
designator *  value Filter_EMI_C  Reference: C
ki_keywords: EMI filter feedthrough capacitor; ki_description: EMI filter, single capacitor; Datasheet: http://www.murata.com/~/media/webrenewal/support/library/catalog/products/emc/emifil/c31e.ashx?la=en-gb
pins: 1, 2, 3

## Filter_EMI_CLC
designator *  value Filter_EMI_CLC  Reference: FL
ki_keywords: EMI T-filter; ki_description: EMI T-filter (CLC); ki_fp_filters: Filter* Resonator*; Datasheet: http://www.murata.com/~/media/webrenewal/support/library/catalog/products/emc/emifil/c31e.ashx?la=en-gb
pins: 1, 2, 3

## Filter_EMI_CommonMode
designator *  value Filter_EMI_CommonMode  Reference: FL
ki_keywords: EMI common mode filter; ki_description: EMI 2-inductor common mode filter; ki_fp_filters: L_* L_CommonMode*; Datasheet: ~
pins: 1, 2, 3, 4

## Filter_EMI_LCL
designator *  value Filter_EMI_LCL  Reference: FL
ki_keywords: EMI T-filter; ki_description: EMI T-filter (LCL); ki_fp_filters: Filter* Resonator*; Datasheet: http://www.murata.com/~/media/webrenewal/support/library/catalog/products/emc/emifil/c31e.ashx?la=en-gb
pins: 1, 2, 3

## Filter_EMI_LL
designator *  value Filter_EMI_LL  Reference: FL
ki_keywords: EMI filter; ki_description: EMI 2-inductor filter; ki_fp_filters: L_* L_CommonMode*; Datasheet: ~
pins: 1, 2, 3, 4

## Filter_EMI_LL_1423
designator *  value Filter_EMI_LL_1423  Reference: FL
ki_keywords: EMI filter common-mode choke; ki_description: EMI 2-inductor filter, pin-connections 1-4 and 2-3; ki_fp_filters: Bourns*SRF0905*; Datasheet: ~
pins: 1, 2, 3, 4

## Filter_EMI_LLL
designator *  value Filter_EMI_LLL  Reference: FL
ki_keywords: three phase common mode choke; ki_description: EMI 3-inductor filter; ki_fp_filters: L* L_CommonMode*; Datasheet: ~
pins: 1, 2, 3, 4, 5, 6

## Filter_EMI_LLL_162534
designator *  value Filter_EMI_LLL_162534  Reference: FL
ki_keywords: three phase common mode choke; ki_description: EMI 3-inductor filter; ki_fp_filters: L* L_CommonMode*; Datasheet: ~
pins: 1, 2, 3, 4, 5, 6

## Filter_EMI_LLLL
designator *  value Filter_EMI_LLLL  Reference: FL
ki_keywords: common mode quadruple choke quad coil; ki_description: EMI 4-inductor filter; ki_fp_filters: L* L_CommonMode*; Datasheet: ~
pins: 1, 2, 3, 4, 5, 6, 7, 8

## Filter_EMI_LLLL_15263748
designator *  value Filter_EMI_LLLL_15263748  Reference: FL
ki_keywords: common mode quadruple choke quad coil; ki_description: EMI 4-inductor filter; ki_fp_filters: L* L_CommonMode*; Datasheet: ~
pins: 1, 2, 3, 4, 5, 6, 7, 8

## FrequencyCounter
designator *  value FrequencyCounter  Reference: MES
ki_keywords: frequency counter; Datasheet: ~; ki_description: Frequency counter
pins: 1 -, 2 +
text: Hz

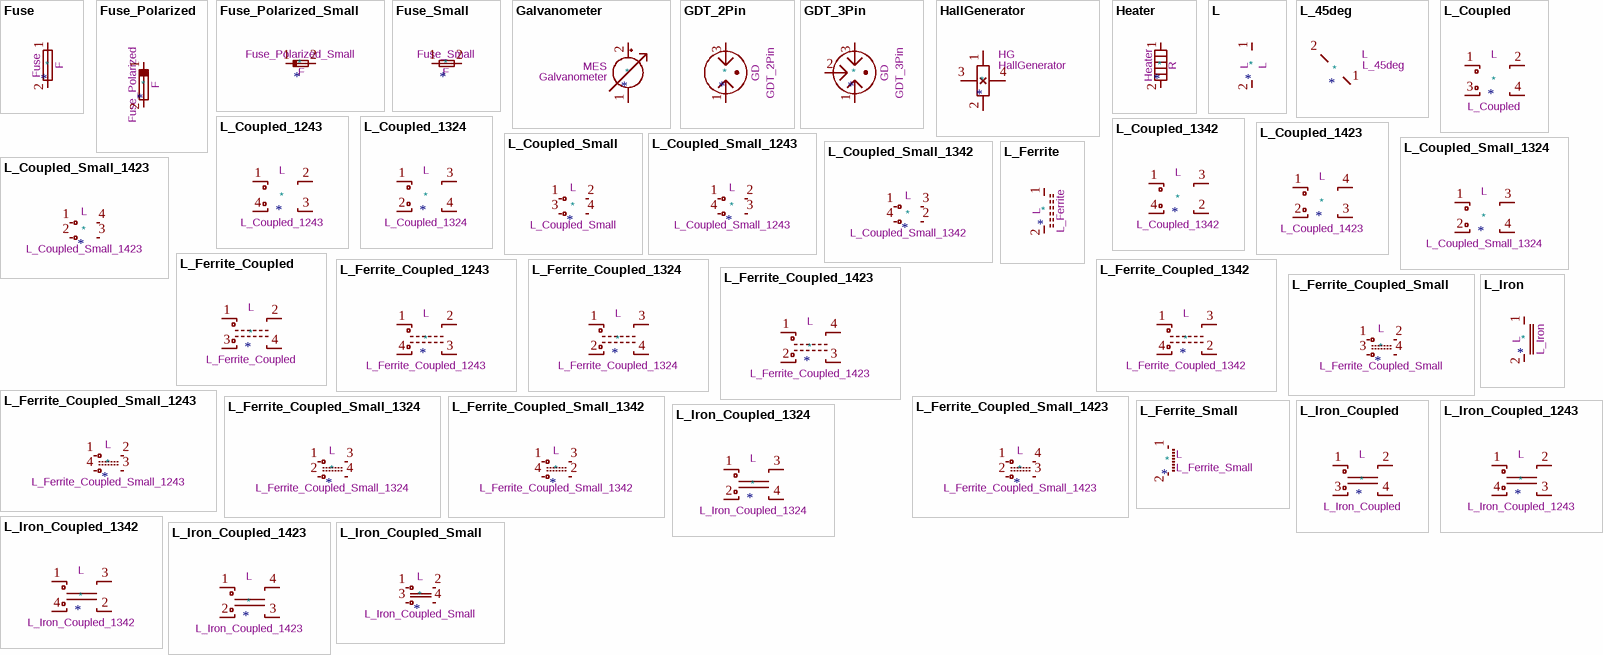
[diagram p6: symbols Fuse to L_Iron_Coupled_Small]

## Fuse
designator *  value Fuse  Reference: F
ki_fp_filters: *Fuse*; Datasheet: ~; ki_keywords: fuse; ki_description: Fuse
pins: 1, 2

## Fuse_Polarized
designator *  value Fuse_Polarized  Reference: F
ki_keywords: fuse; ki_description: Polarized fuse; ki_fp_filters: *Fuse*; Datasheet: ~
pins: 1, 2

## Fuse_Polarized_Small
designator *  value Fuse_Polarized_Small  Reference: F
ki_keywords: fuse; ki_description: Polarized fuse, small symbol; ki_fp_filters: *Fuse*; Datasheet: ~
pins: 1, 2

## Fuse_Small
designator *  value Fuse_Small  Reference: F
ki_keywords: fuse; ki_description: Fuse, small symbol; ki_fp_filters: *Fuse*; Datasheet: ~
pins: 1, 2

## Galvanometer
designator *  value Galvanometer  Reference: MES
Datasheet: ~; ki_keywords: galvanometer; ki_description: Galvanometer
pins: 1 -, 2 +

## GDT_2Pin
designator *  value GDT_2Pin  Reference: GD
ki_keywords: gdt; ki_description: Gas Discharge Tube with 2 Pins; Datasheet: ~
pins: 1, 3

## GDT_3Pin
designator *  value GDT_3Pin  Reference: GD
ki_keywords: gdt; ki_description: Gas Discharge Tube with 3 Pins; Datasheet: ~
pins: 1, 2, 3

## HallGenerator
designator *  value HallGenerator  Reference: HG
ki_keywords: Hall generator magnet; ki_description: Hall effect generator; Datasheet: ~
pins: 1 U1, 2 U2, 3 UH1, 4 UH2

## Heater
designator *  value Heater  Reference: R
ki_keywords: heater R resistor; ki_description: Resistive heater; Datasheet: ~
pins: 1, 2

## L
designator *  value L
ki_keywords: inductor choke coil reactor magnetic; ki_description: Inductor; ki_fp_filters: Choke_* *Coil* Inductor_* L_*; Reference: L; Datasheet: ~
pins: 1, 2

## L_45deg
designator *  value L_45deg  Reference: L
ki_keywords: inductor choke coil reactor magnetic inductor; ki_description: Inductor, rotated by 45°; ki_fp_filters: L_* Choke_* Inductor_* *Coil*; Datasheet: ~
pins: 1, 2

## L_Coupled
designator *  value L_Coupled  Reference: L
ki_keywords: inductor choke coil reactor magnetic coupled; ki_description: Coupled inductor; ki_fp_filters: Choke_* *Coil* Inductor_* L_*; Datasheet: ~
pins: 1, 2, 3, 4

## L_Coupled_1243
designator *  value L_Coupled_1243  Reference: L
ki_keywords: inductor choke coil reactor magnetic coupled; ki_description: Coupled inductor; ki_fp_filters: Choke_* *Coil* Inductor_* L_*; Datasheet: ~
pins: 1, 2, 3, 4

## L_Coupled_1324
designator *  value L_Coupled_1324  Reference: L
ki_keywords: inductor choke coil reactor magnetic coupled; ki_description: Coupled inductor; ki_fp_filters: Choke_* *Coil* Inductor_* L_*; Datasheet: ~
pins: 1, 2, 3, 4

## L_Coupled_1342
designator *  value L_Coupled_1342  Reference: L
ki_keywords: inductor choke coil reactor magnetic coupled; ki_description: Coupled inductor; ki_fp_filters: Choke_* *Coil* Inductor_* L_*; Datasheet: ~
pins: 1, 2, 3, 4

## L_Coupled_1423
designator *  value L_Coupled_1423  Reference: L
ki_keywords: inductor choke coil reactor magnetic coupled; ki_description: Coupled inductor; ki_fp_filters: Choke_* *Coil* Inductor_* L_*; Datasheet: ~
pins: 1, 2, 3, 4

## L_Coupled_Small
designator *  value L_Coupled_Small  Reference: L
ki_keywords: inductor choke coil reactor magnetic coupled; ki_description: Coupled inductor, small symbol; ki_fp_filters: Choke_* *Coil* Inductor_* L_*; Datasheet: ~
pins: 1, 2, 3, 4